# EAGLE library part A3950_QFN16 (library A3950)
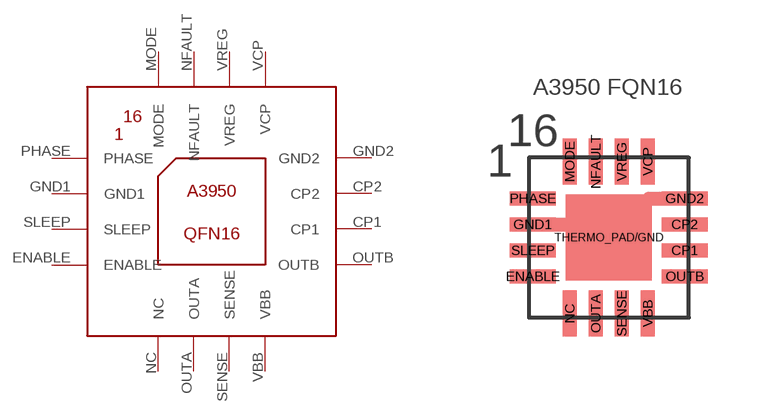
[diagram p0: symbol with the pads of A3950_QFN16; footprint A3950_QFN16]

Designator prefix -

## A3950_QFN16  [A3950_QFN16]
CP1  CP1
CP2  CP2
ENABLE  ENABLE
GND1  GND1
GND2  GND2
MODE  MODE
NC  NC
NFAULT  NFAULT
OUTA  OUTA
OUTB  OUTB
PHASE  PHASE
SENSE  SENSE
SLEEP  SLEEP
VBB  VBB
VCP  VCP
VREG  VREG

## Footprint A3950_QFN16 (pad centres in mm)
smd 1.15 x 0.35: CP1 1.9,-0.325; CP2 1.9,0.325; ENABLE -1.9,-0.975; GND1 -1.9,0.325; GND2 1.9,0.975; OUTB 1.9,-0.975; PHASE -1.9,0.975; SLEEP -1.9,-0.325
smd 0.35 x 1.15: MODE -0.975,1.9; NC -0.975,-1.9; NFAULT -0.325,1.9; OUTA -0.325,-1.9; SENSE 0.325,-1.9; VBB 0.975,-1.9; VCP 0.975,1.9; VREG 0.325,1.9
smd 2.15 x 2.15: THERMO_PAD/GND 0,0